# EAGLE library part SM20B-SRSS (library con-JST SH)
JST SH series header 1.00mm pitch disconnectable crimp style connectors, horizontal (side entry type), 20 pins
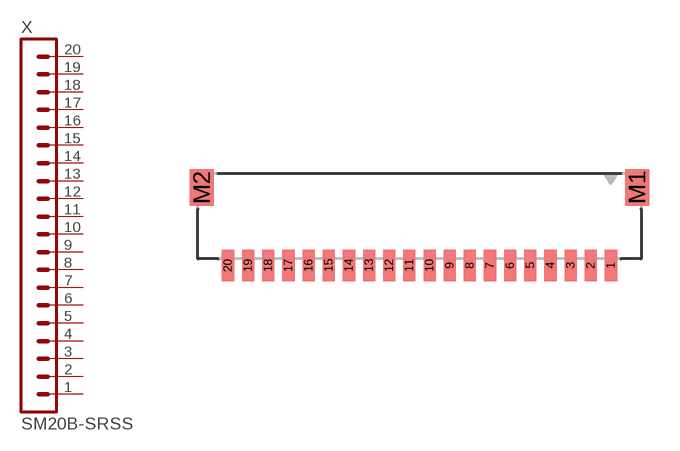
[diagram p20: symbol with the pads of SM20B-SRSS-TB; footprint SM20B-SRSS-TB]

Designator prefix X

## SM20B-SRSS-TB  [SM20B-SRSS-TB]
1  1  pas
2  2  pas
3  3  pas
4  4  pas
5  5  pas
6  6  pas
7  7  pas
8  8  pas
9  9  pas
10  10  pas
11  11  pas
12  12  pas
13  13  pas
14  14  pas
15  15  pas
16  16  pas
17  17  pas
18  18  pas
19  19  pas
20  20  pas

## Footprint SM20B-SRSS-TB (pad centres in mm)
JST SH series header 1.00mm pitch disconnectable crimp style connectors, SMT horizontal (side entry type), 20 pins
smd 0.6 x 1.55: 1 9.5,0; 2 8.5,0; 3 7.5,0; 4 6.5,0; 5 5.5,0; 6 4.5,0; 7 3.5,0; 8 2.5,0; 9 1.5,0; 10 0.5,0; 11 -0.5,0; 12 -1.5,0; 13 -2.5,0; 14 -3.5,0; 15 -4.5,0; 16 -5.5,0; 17 -6.5,0; 18 -7.5,0; 19 -8.5,0; 20 -9.5,0
smd 1.2 x 1.8: M1 10.8,3.875; M2 -10.8,3.875